# Altium schematic symbol library AP63205WU-7.SchLib: 2 symbols
Pins are listed as number, name and electrical type; pins without a type are passive.

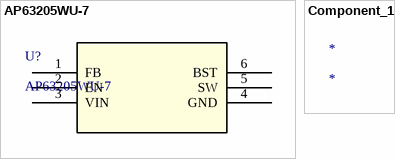
[diagram p0: symbols AP63205WU-7 to Component_1]

## AP63205WU-7
designator U?
No Description Available; Mfr_Name: Diodes Inc; Copyright: Copyright (C) 2023 Ultra Librarian. All rights reserved.; Manufacturer_Part_Number: AP63205WU-7; RefDes: RefDes; Type: DEV
footprint SOIC_05WU-7_DIO
pins: 1 FB, 2 EN, 3 VIN, 4 GND (power), 5 SW, 6 BST

## Component_1
designator *